# EAGLE library part 61301011021 (library Board-to-Board (rev18a))
WR-PHD 2.54mm Angled Pin Header, 10 Pins =>Con_BTB_PHD_2.54_1_THT_61301011021 <http://katalog.we-online.de/media/images/eican/Con_BTB_PHD_2.54_1_THT_61303211021_pf2.jpg> Details see: http://katalog.we-online.de/en/em/613_0xx_110_21 Created 2014-05-29, Karrer Zheng 2014 (C) Würth Elektronik
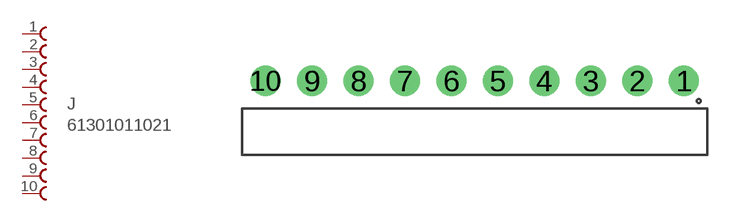
[diagram p43: symbol with the pads of 61301011021; footprint 61301011021]

Designator prefix J

## 61301011021  [61301011021]
1  1  pas
2  2  pas
3  3  pas
4  4  pas
5  5  pas
6  6  pas
7  7  pas
8  8  pas
9  9  pas
10  10  pas

## Footprint 61301011021 (pad centres in mm)
WR-PHD 2.54mm Angled Pin Header, 10 Pins
drill 1.1: 1 11.43,0; 2 8.89,0; 3 6.35,0; 4 3.81,0; 5 1.27,0; 6 -1.27,0; 7 -3.81,0; 8 -6.35,0; 9 -8.89,0; 10 -11.43,0